# EAGLE library part ADC122S051CIMM2 (library ADC122S051)
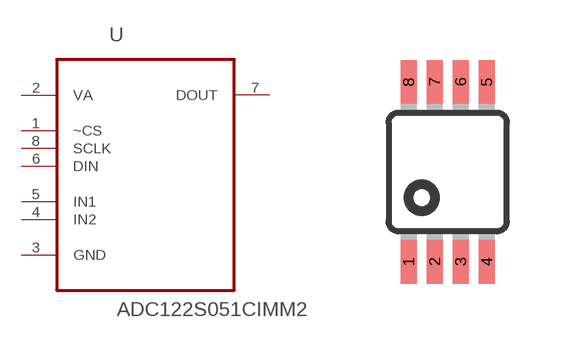
[diagram p1: symbol with the pads of MSOP8; footprint MSOP8]

Designator prefix -

## ADC122S051CIMM2  [MSOP8]
1  ~CS  in
2  VA  pwr
3  GND  pas
4  IN2  in
5  IN1  in
6  DIN  in
7  DOUT  out
8  SCLK  in

## Footprint MSOP8 (pad centres in mm)
8M, 8-Lead, 0.118" Wide, Miniature Small Outline Package MSOP 8M-Package doc1097.pdf
smd 0.4 x 1.1: 1 -0.975,-2.25; 2 -0.325,-2.25; 3 0.325,-2.25; 4 0.975,-2.25; 5 0.975,2.25; 6 0.325,2.25; 7 -0.325,2.25; 8 -0.975,2.25